# Altium integrated library Analog Devices Amplifiers and Linear Voltage References.IntLib: 547 symbols (part 1 of 20)
Pins are listed as number, name and electrical type; pins without a type are passive.

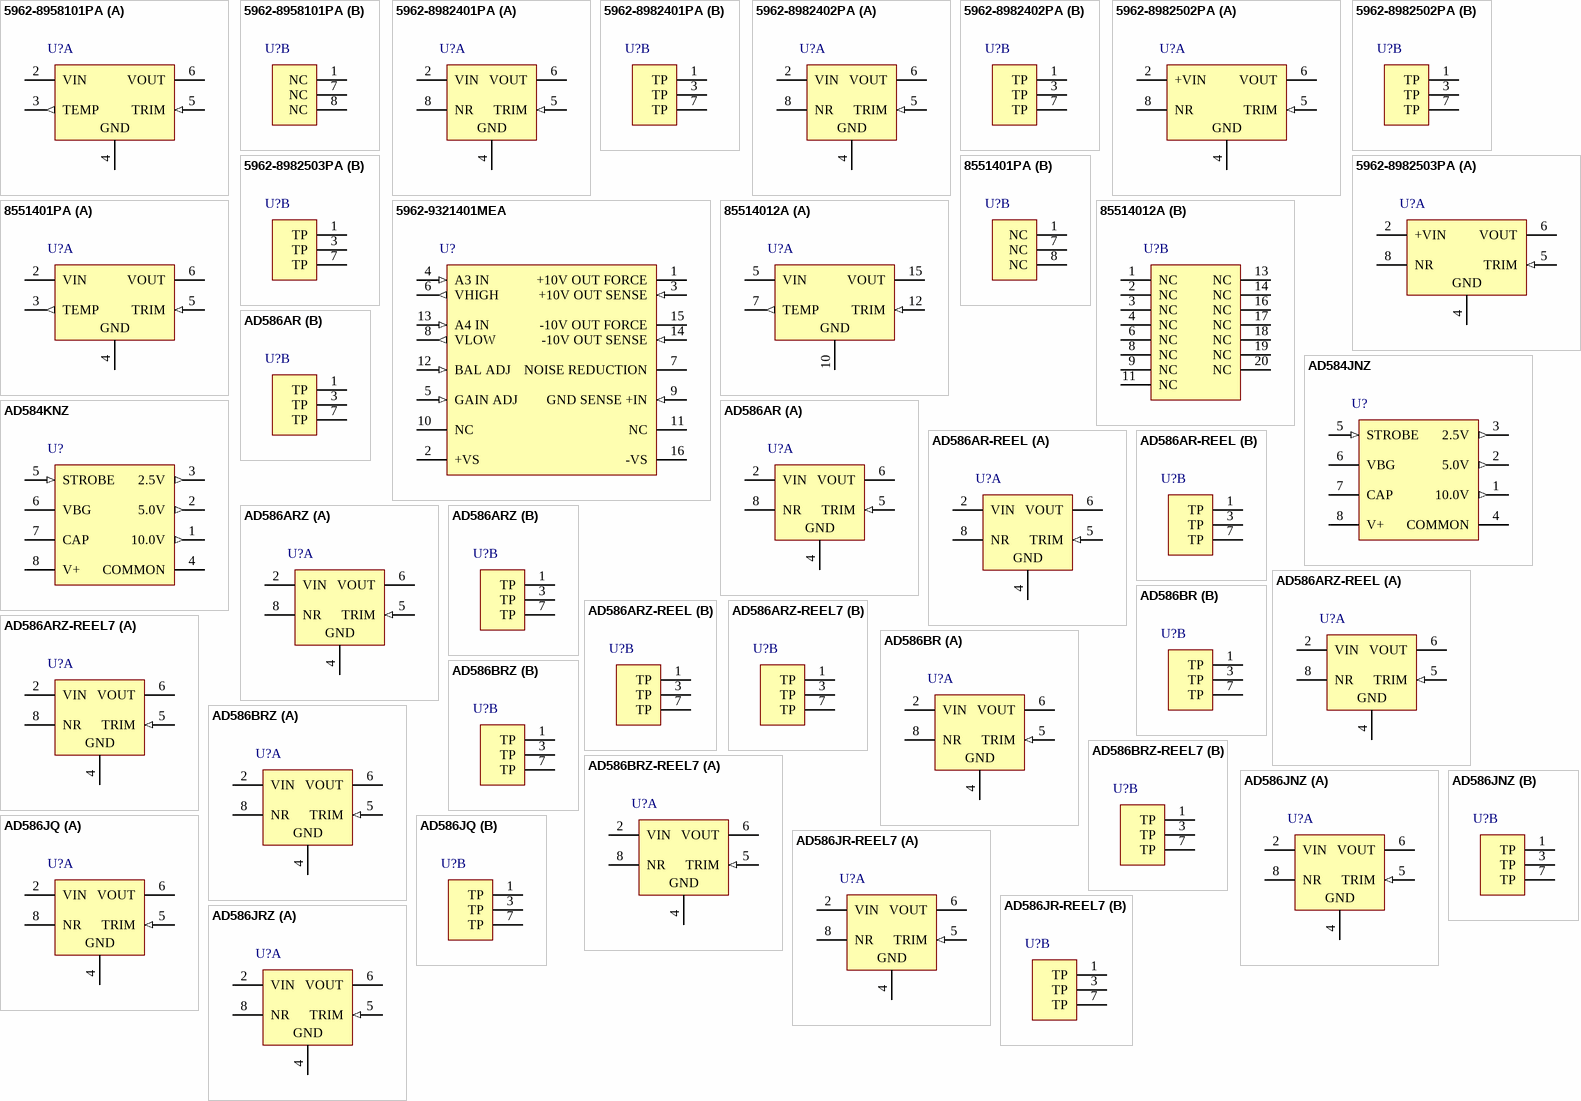
[diagram p0: symbols 5962-8958101PA to AD586JRZ]

## 5962-8958101PA
designator U?
Precision Voltage Reference, 10 V Output, 12 to 40 V Supply, Military, 8-pin DIP (Q-8), Tube; Manufacturer: Analog Devices; PartNumber: 5962-8958101PA; DatasheetVersion: Rev. K; PackageVersion: Aug-05; PackageReference: Q-8; PackageDescription: 8-Pin Ceramic Dual In-Line Package, Row spacing 7.62 mm, Pitch 2.54 mm; Supplier 1: Mouser; Supplier Part Number 1: 584-5962-8958101PA; Packing: Tube; Mounting Technology: Through Hole; ComponentLink1Description: Manufacturer URL; ComponentLink1URL: http://www.analog.com/en/index.html; ComponentLink2Description: Datasheet; ComponentLink2URL: http://www.analog.com/static/imported-files/data_sheets/REF01_02_03.pdf; ComponentLink3Description: Package Specification; ComponentLink3URL: http://www.analog.com/static/imported-files/packages/3925655241313314758Q_8.pdf; ComponentLink4Description: URL Link1; ComponentLink4URL: Product URL:http://www.analog.com/en/special-linear-functions/voltage-references/ref01/products/product.html
footprint ADI-Q-8 (DIP, 8-Leads, Body 10.29x6.73mm, Pitch 2.54mm)
part A pins: 2 VIN (power), 3 TEMP (out), 4 GND (power), 5 TRIM (in), 6 VOUT (power)
part B pins: 1 NC, 7 NC, 8 NC

## 5962-8982401PA
designator U?
High Precision Reference, 5 V Output, 10.8 to 36 V Supply, Military, 8-pin DIP (Q-8), Tube; Manufacturer: Analog Devices; PartNumber: 5962-8982401PA; Vout: 5V; DatasheetVersion: Rev. G; PackageVersion: Aug-05; PackageReference: Q-8; PackageDescription: 8-Pin Ceramic Dual In-Line Package, Row spacing 7.62 mm, Pitch 2.54 mm; Supplier 1: Mouser; Supplier Part Number 1: 584-5962-8982401PA; Packing: Tube; Mounting Technology: Through Hole; ComponentLink1Description: Manufacturer URL; ComponentLink1URL: http://www.analog.com/en/index.html; ComponentLink2Description: Datasheet; ComponentLink2URL: http://www.analog.com/static/imported-files/data_sheets/AD586.pdf; ComponentLink3Description: Package Specification; ComponentLink3URL: http://www.analog.com/static/imported-files/packages/3925655241313314758Q_8.pdf; ComponentLink4Description: URL Link1; ComponentLink4URL: Product URL:http://www.analog.com/en/special-linear-functions/voltage-references/ad586/products/product.html
footprint ADI-Q-8 (DIP, 8-Leads, Body 10.29x6.73mm, Pitch 2.54mm)
part A pins: 2 VIN (power) "Input Voltage.", 4 GND (power) "Ground.", 5 TRIM (in) "Optional External Fine Trim. See the Applying the AD586 section.", 6 VOUT (power) "Output Voltage.", 8 NR "Optional Noise Reduction Filter with External 1uF Capacitor to Ground."
part B pins: 1 TP "Factory Trim Pad (No Connect).", 3 TP "Factory Trim Pad (No Connect).", 7 TP "Factory Trim Pad (No Connect)."

## 5962-8982402PA
designator U?
High Precision Reference, 5 V Output, 10.8 to 36 V Supply, Military, 8-pin DIP (Q-8), Tube; Manufacturer: Analog Devices; PartNumber: 5962-8982402PA; Vout: 5V; DatasheetVersion: Rev. G; PackageVersion: Aug-05; PackageReference: Q-8; PackageDescription: 8-Pin Ceramic Dual In-Line Package, Row spacing 7.62 mm, Pitch 2.54 mm; Supplier 1: Mouser; Supplier Part Number 1: 584-5962-8982402PA; Packing: Tube; Mounting Technology: Through Hole; ComponentLink1Description: Manufacturer URL; ComponentLink1URL: http://www.analog.com/en/index.html; ComponentLink2Description: Datasheet; ComponentLink2URL: http://www.analog.com/static/imported-files/data_sheets/AD586.pdf; ComponentLink3Description: Package Specification; ComponentLink3URL: http://www.analog.com/static/imported-files/packages/3925655241313314758Q_8.pdf; ComponentLink4Description: URL Link1; ComponentLink4URL: Product URL:http://www.analog.com/en/special-linear-functions/voltage-references/ad586/products/product.html
footprint ADI-Q-8 (DIP, 8-Leads, Body 10.29x6.73mm, Pitch 2.54mm)
part A pins: 2 VIN (power) "Input Voltage.", 4 GND (power) "Ground.", 5 TRIM (in) "Optional External Fine Trim. See the Applying the AD586 section.", 6 VOUT (power) "Output Voltage.", 8 NR "Optional Noise Reduction Filter with External 1uF Capacitor to Ground."
part B pins: 1 TP "Factory Trim Pad (No Connect).", 3 TP "Factory Trim Pad (No Connect).", 7 TP "Factory Trim Pad (No Connect)."

## 5962-8982502PA
designator U?
High Precision Reference, 10 V Output, 13.5 to 36 V Supply, Military, 8-pin DIP (Q-8), Tube; Manufacturer: Analog Devices; PartNumber: 5962-8982502PA; Vout: 10V; DatasheetVersion: Rev. H; PackageVersion: Aug-05; PackageReference: Q-8; PackageDescription: 8-Pin Ceramic Dual In-Line Package, Row spacing 7.62 mm, Pitch 2.54 mm; Supplier 1: Mouser; Supplier Part Number 1: 584-5962-8982502PA; Packing: Tube; Mounting Technology: Through Hole; ComponentLink1Description: Manufacturer URL; ComponentLink1URL: http://www.analog.com/en/index.html; ComponentLink2Description: Datasheet; ComponentLink2URL: http://www.analog.com/static/imported-files/data_sheets/AD587.pdf; ComponentLink3Description: Package Specification; ComponentLink3URL: http://www.analog.com/static/imported-files/packages/3925655241313314758Q_8.pdf; ComponentLink4Description: URL Link1; ComponentLink4URL: Product URL:http://www.analog.com/en/special-linear-functions/voltage-references/ad587/products/product.html
footprint ADI-Q-8 (DIP, 8-Leads, Body 10.29x6.73mm, Pitch 2.54mm)
part A pins: 2 +VIN (power) "Input Voltage.", 4 GND (power) "Ground.", 5 TRIM (in) "Fine Trimming of Output Voltage.", 6 VOUT (power) "Output Voltage.", 8 NR "Noise Reduction of Output Voltage. Reduces noise via external capacitor to ground."
part B pins: 1 TP "No Connection. Leave floating.", 3 TP "No Connection. Leave floating.", 7 TP "No Connection. Leave floating."

## 5962-8982503PA
designator U?
High Precision Reference, 10 V Output, 13.5 to 36 V Supply, Military, 8-pin DIP (Q-8), Tube; Manufacturer: Analog Devices; PartNumber: 5962-8982503PA; Vout: 10V; DatasheetVersion: Rev. H; PackageVersion: Aug-05; PackageReference: Q-8; PackageDescription: 8-Pin Ceramic Dual In-Line Package, Row spacing 7.62 mm, Pitch 2.54 mm; Supplier 1: Mouser; Supplier Part Number 1: 584-5962-8982503PA; Packing: Tube; Mounting Technology: Through Hole; ComponentLink1Description: Manufacturer URL; ComponentLink1URL: http://www.analog.com/en/index.html; ComponentLink2Description: Datasheet; ComponentLink2URL: http://www.analog.com/static/imported-files/data_sheets/AD587.pdf; ComponentLink3Description: Package Specification; ComponentLink3URL: http://www.analog.com/static/imported-files/packages/3925655241313314758Q_8.pdf; ComponentLink4Description: URL Link1; ComponentLink4URL: Product URL:http://www.analog.com/en/special-linear-functions/voltage-references/ad587/products/product.html
footprint ADI-Q-8 (DIP, 8-Leads, Body 10.29x6.73mm, Pitch 2.54mm)
part A pins: 2 +VIN (power) "Input Voltage.", 4 GND (power) "Ground.", 5 TRIM (in) "Fine Trimming of Output Voltage.", 6 VOUT (power) "Output Voltage.", 8 NR "Noise Reduction of Output Voltage. Reduces noise via external capacitor to ground."
part B pins: 1 TP "No Connection. Leave floating.", 3 TP "No Connection. Leave floating.", 7 TP "No Connection. Leave floating."

## 5962-9321401MEA
designator U?
High Precision Reference, 10 V Output, + / - 15 V Supply, Military, 16-pin DIP (Q-16), Tube; Manufacturer: Analog Devices; PartNumber: 5962-9321401MEA; Vout: +/-10V; DatasheetVersion: Rev. B; PackageVersion: Aug-05; PackageReference: Q-16; PackageDescription: 16-Pin Ceramic Dual In-Line Package, Row spacing 7.62 mm, Pitch 2.54 mm; Supplier 1: Mouser; Supplier Part Number 1: 584-5962-9321401MEA; Packing: Tube; Mounting Technology: Through Hole; ComponentLink1Description: Manufacturer URL; ComponentLink1URL: http://www.analog.com/en/index.html; ComponentLink2Description: Datasheet; ComponentLink2URL: http://www.analog.com/static/imported-files/data_sheets/AD688.pdf; ComponentLink3Description: Package Specification; ComponentLink3URL: http://www.analog.com/static/imported-files/packages/54083157002221Q_16.pdf; ComponentLink4Description: URL Link1; ComponentLink4URL: Product URL:http://www.analog.com/en/special-linear-functions/voltage-references/ad688/products/product.html
footprint ADI-Q-16 (DIP, 16-Leads, Body 21.34x6.73mm, Pitch 2.54mm)
pins: 1 +10V OUT FORCE (power) "+10 V Output with Kelvin Force. Connect to Pin 3.", 2 +VS (power) "Positive Power Supply.", 3 +10V OUT SENSE (in) "+10 V Output with Kelvin Sense. Connect to Pin 1.", 4 A3 IN (in) "+ Input to A3. Connect to VHIGH, Pin 6.", 5 GAIN ADJ (in) "Reference Gain Adjustment for Calibration. See the Calibration section.", 6 VHIGH (out) "Unbuffered Reference High Output.", 7 NOISE REDUCTION "Noise Filtering Pin. Connect external 1 uF capacitor to ground to reduce output noise, see the Noise Performance and Reduction section. May be left open.", 8 VLOW (out) "Unbuffered Reference Low Output.", 9 GND SENSE +IN (in) "Gound with Kelvin Sense.", 10 NC "No Connection. Leave floating.", 11 NC "No Connection. Leave floating.", 12 BAL ADJ (in) "Reference Centering Adjustment for Calibration. See the Calibration section.", 13 A4 IN (in) "+ Input to A4. Connect to VLOW, Pin 8.", 14 -10V OUT SENSE (in) "-10 V Output with Kelvin Sense. Connect to Pin 15.", 15 -10V OUT FORCE (power) "-10 V Output with Kelvin Force. Connect to Pin 14.", 16 -VS (power) "Negative Power Supply."

## 8551401PA
designator U?
Precision Voltage Reference, 5 V Output, 7 to 36 V Supply, Military, 8-pin DIP (Q-8), Tube; Manufacturer: Analog Devices; PartNumber: 8551401PA; DatasheetVersion: Rev. K; PackageVersion: Aug-05; PackageReference: Q-8; PackageDescription: 8-Pin Ceramic Dual In-Line Package, Row spacing 7.62 mm, Pitch 2.54 mm; Supplier 1: Farnell; Supplier Part Number 1: 2312697; Supplier 2: Mouser; Supplier Part Number 2: 584-8551401PA; Packing: Tube; Mounting Technology: Through Hole; ComponentLink1Description: Manufacturer URL; ComponentLink1URL: http://www.analog.com/en/index.html; ComponentLink2Description: Datasheet; ComponentLink2URL: http://www.analog.com/static/imported-files/data_sheets/REF01_02_03.pdf; ComponentLink3Description: Package Specification; ComponentLink3URL: http://www.analog.com/static/imported-files/packages/3925655241313314758Q_8.pdf; ComponentLink4Description: URL Link1; ComponentLink4URL: Product URL:http://www.analog.com/en/special-linear-functions/voltage-references/ref02/products/product.html
footprint ADI-Q-8 (DIP, 8-Leads, Body 10.29x6.73mm, Pitch 2.54mm)
part A pins: 2 VIN (power), 3 TEMP (out), 4 GND (power), 5 TRIM (in), 6 VOUT (power)
part B pins: 1 NC, 7 NC, 8 NC

## 85514012A
designator U?
Precision Voltage Reference, 5 V Output, 7 to 36 V Supply, Military, 20-pin LCC (E-20-1), Tube; Manufacturer: Analog Devices; PartNumber: 85514012A; DatasheetVersion: Rev. K; PackageVersion: 022106-A, 02/2006; PackageReference: E-20-1; PackageDescription: 20-Terminal Ceramic Leadless Chip Carrier, Body 8.89 x 8.89 mm, Pitch 1.27 mm; Supplier 1: Mouser; Supplier Part Number 1: 584-85514012A; Packing: Tube; Mounting Technology: Surface Mount; ComponentLink1Description: Manufacturer URL; ComponentLink1URL: http://www.analog.com/en/index.html; ComponentLink2Description: Datasheet; ComponentLink2URL: http://www.analog.com/static/imported-files/data_sheets/REF01_02_03.pdf; ComponentLink3Description: Package Specification; ComponentLink3URL: http://www.analog.com/static/imported-files/packages/PKG_PDF/LCC(E)/E_20_1.pdf; ComponentLink4Description: URL Link1; ComponentLink4URL: Product URL:http://www.analog.com/en/special-linear-functions/voltage-references/ref02/products/product.html
footprint ADI-E-20-1_N (LCC, 20-Leads, Body 8.9x8.9mm, Pitch 1.27mm, IPC Medium Density)
footprint ADI-E-20-1_L (LCC, 20-Leads, Body 8.9x8.9mm, Pitch 1.27mm, IPC High Density)
footprint ADI-E-20-1_M (LCC, 20-Leads, Body 8.9x8.9mm, Pitch 1.27mm, IPC Low Density)
part A pins: 5 VIN (power) "Supply Voltage Input.", 7 TEMP (out) "Temperature (Band Gap) Output. Refer to the Temperature Monitoring section.", 10 GND (power) "Ground Connection.", 12 TRIM (in) "Output Voltage Trim. Refer to the Output Adjustment section.", 15 VOUT (power) "Reference Voltage Output."
part B pins: 1 NC "No Internal Connection. Leave floating or tied to ground in actual application.", 2 NC "No Internal Connection. Leave floating or tied to ground in actual application.", 3 NC "No Internal Connection. Leave floating or tied to ground in actual application.", 4 NC "No Internal Connection. Leave floating or tied to ground in actual application.", 6 NC "No Internal Connection. Leave floating or tied to ground in actual application.", 8 NC "No Internal Connection. Leave floating or tied to ground in actual application.", 9 NC "No Internal Connection. Leave floating or tied to ground in actual application.", 11 NC "No Internal Connection. Leave floating or tied to ground in actual application.", 13 NC "No Internal Connection. Leave floating or tied to ground in actual application.", 14 NC "No Internal Connection. Leave floating or tied to ground in actual application.", 16 NC "No Internal Connection. Leave floating or tied to ground in actual application.", 17 NC "No Internal Connection. Leave floating or tied to ground in actual application.", 18 NC "No Internal Connection. Leave floating or tied to ground in actual application.", 19 NC "No Internal Connection. Leave floating or tied to ground in actual application.", 20 NC "No Internal Connection. Leave floating or tied to ground in actual application."

## AD584JNZ
designator U?
Pin Programmable, Precision Voltage Reference, + 2.5 / + 5 / + 7.5 / + 10 Prog V Output, 4.5 to 30 V Supply, Commercial, 8-pin DIP (N-8), Tube; Manufacturer: Analog Devices; PartNumber: AD584JNZ; Max V Supply (V): 30; Min V Supply (V): 4.5; Vout: 2.5V, 5V, 7.5V, 10V; DatasheetVersion: Rev. C; PackageVersion: 070606-A, 07/2006; PackageReference: N-8; PackageDescription: 8-Pin Plastic Dual In-Line Package, Row spacing 7.62 mm, Pitch 2.54 mm; Supplier 1: Digi-Key; Supplier Part Number 1: AD584JNZ-ND; Supplier 2: Farnell; Supplier Part Number 2: 9604065; Supplier 3: Mouser; Supplier Part Number 3: 584-AD584JNZ; Packing: Tube; Operating Temp Range: 0 to 70 degC; Ref Out TC (ppm/C): 30; Mounting Technology: Through Hole; Code_JEDEC: MS-001; ComponentLink1Description: Manufacturer URL; ComponentLink1URL: http://www.analog.com/en/index.html; ComponentLink2Description: Datasheet; ComponentLink2URL: http://www.analog.com/static/imported-files/data_sheets/AD584.pdf; ComponentLink3Description: Package Specification; ComponentLink3URL: http:/www.analog.com/static/imported-files/packages/PKG_PDF/PDIP(N)/N_8.pdf; ComponentLink4Description: URL Link1; ComponentLink4URL: Product URL:http://www.analog.com/en/special-linear-functions/voltage-references/ad584/products/product.html
footprint ADI-N-8 (DIP, 8-Leads, Body 9.59x6.6mm, Pitch 2.54mm)
pins: 1 10.0V (out), 2 5.0V (out), 3 2.5V (out), 4 COMMON, 5 STROBE (in), 6 VBG, 7 CAP, 8 V+ (power)

## AD584KNZ
designator U?
Pin Programmable, Precision Voltage Reference, + 2.5 / + 5 / + 7.5 / + 10 Prog V Output, 4.5 to 30 V Supply, Commercial, 8-pin DIP (N-8), Tube; Manufacturer: Analog Devices; PartNumber: AD584KNZ; Max V Supply (V): 30; Min V Supply (V): 4.5; Ref Out TC (ppm/C): 15; Vout: 2.5V, 5V, 7.5V, 10V; DatasheetVersion: Rev. C; PackageVersion: 070606-A, 07/2006; PackageReference: N-8; PackageDescription: 8-Pin Plastic Dual In-Line Package, Row spacing 7.62 mm, Pitch 2.54 mm; Supplier 1: Digi-Key; Supplier Part Number 1: AD584KNZ-ND; Supplier 2: Farnell; Supplier Part Number 2: 1438331; Supplier 3: Mouser; Supplier Part Number 3: 584-AD584KNZ; Packing: Tube; Operating Temp Range: 0 to 70 degC; Mounting Technology: Through Hole; Code_JEDEC: MS-001; ComponentLink1Description: Manufacturer URL; ComponentLink1URL: http://www.analog.com/en/index.html; ComponentLink2Description: Datasheet; ComponentLink2URL: http://www.analog.com/static/imported-files/data_sheets/AD584.pdf; ComponentLink3Description: Package Specification; ComponentLink3URL: http:/www.analog.com/static/imported-files/packages/PKG_PDF/PDIP(N)/N_8.pdf; ComponentLink4Description: URL Link1; ComponentLink4URL: Product URL:http://www.analog.com/en/special-linear-functions/voltage-references/ad584/products/product.html
footprint ADI-N-8 (DIP, 8-Leads, Body 9.59x6.6mm, Pitch 2.54mm)
pins: 1 10.0V (out), 2 5.0V (out), 3 2.5V (out), 4 COMMON, 5 STROBE (in), 6 VBG, 7 CAP, 8 V+ (power)

## AD586AR
designator U?
High Precision Reference, 5 V Output, 10.8 to 36 V Supply, Industrial, 8-pin SOIC (R-8), Tube; Manufacturer: Analog Devices; PartNumber: AD586AR; Ref Out TC (ppm/C): 15; Vout: 5V; DatasheetVersion: Rev. G; PackageVersion: 060506-A, 06/2006; PackageReference: R-8; PackageDescription: 8-Pin Standard Small Outline Package, Body 4.9 x 3.9 mm, Pitch 1.27 mm; Supplier 1: Digi-Key; Supplier Part Number 1: AD586AR-ND; Supplier 2: Mouser; Supplier Part Number 2: 584-AD586AR; Packing: Tube; Operating Temp Range: -40 to 85 degC; Mounting Technology: Surface Mount; Code_JEDEC: MS-012-AA; ComponentLink1Description: Manufacturer URL; ComponentLink1URL: http://www.analog.com/en/index.html; ComponentLink2Description: Datasheet; ComponentLink2URL: http://www.analog.com/static/imported-files/data_sheets/AD586.pdf; ComponentLink3Description: Package Specification; ComponentLink3URL: http://www.analog.com/static/imported-files/packages/PKG_PDF/SOIC_Narrow%20(R)/R_8.pdf; ComponentLink4Description: URL Link1; ComponentLink4URL: Product URL:http://www.analog.com/en/special-linear-functions/voltage-references/ad586/products/product.html
footprint ADI-R-8_N (SOIC, 8-Leads, Body 4.9x3.9mm, Pitch 1.27mm, IPC Medium Density)
footprint ADI-R-8_L (SOIC, 8-Leads, Body 4.9x3.9mm, Pitch 1.27mm, IPC High Density)
footprint ADI-R-8_M (SOIC, 8-Leads, Body 4.9x3.9mm, Pitch 1.27mm, IPC Low Density)
part A pins: 2 VIN (power) "Input Voltage.", 4 GND (power) "Ground.", 5 TRIM (in) "Optional External Fine Trim. See the Applying the AD586 section.", 6 VOUT (power) "Output Voltage.", 8 NR "Optional Noise Reduction Filter with External 1uF Capacitor to Ground."
part B pins: 1 TP "Factory Trim Pad (No Connect).", 3 TP "Factory Trim Pad (No Connect).", 7 TP "Factory Trim Pad (No Connect)."

## AD586AR-REEL
designator U?
High Precision Reference, 5 V Output, 10.8 to 36 V Supply, Industrial, 8-pin SOIC (R-8), Reel; Manufacturer: Analog Devices; PartNumber: AD586AR-REEL; Ref Out TC (ppm/C): 15; Vout: 5V; DatasheetVersion: Rev. G; PackageVersion: 060506-A, 06/2006; PackageReference: R-8; PackageDescription: 8-Pin Standard Small Outline Package, Body 4.9 x 3.9 mm, Pitch 1.27 mm; Supplier 1: Digi-Key; Supplier Part Number 1: AD586AR-REEL-ND; Supplier 2: Mouser; Supplier Part Number 2: 584-AD586AR-R; Packing: Reel; Operating Temp Range: -40 to 85 degC; Mounting Technology: Surface Mount; Code_JEDEC: MS-012-AA; ComponentLink1Description: Manufacturer URL; ComponentLink1URL: http://www.analog.com/en/index.html; ComponentLink2Description: Datasheet; ComponentLink2URL: http://www.analog.com/static/imported-files/data_sheets/AD586.pdf; ComponentLink3Description: Package Specification; ComponentLink3URL: http://www.analog.com/static/imported-files/packages/PKG_PDF/SOIC_Narrow%20(R)/R_8.pdf; ComponentLink4Description: URL Link1; ComponentLink4URL: Product URL:http://www.analog.com/en/special-linear-functions/voltage-references/ad586/products/product.html
footprint ADI-R-8_N (SOIC, 8-Leads, Body 4.9x3.9mm, Pitch 1.27mm, IPC Medium Density)
footprint ADI-R-8_L (SOIC, 8-Leads, Body 4.9x3.9mm, Pitch 1.27mm, IPC High Density)
footprint ADI-R-8_M (SOIC, 8-Leads, Body 4.9x3.9mm, Pitch 1.27mm, IPC Low Density)
part A pins: 2 VIN (power) "Input Voltage.", 4 GND (power) "Ground.", 5 TRIM (in) "Optional External Fine Trim. See the Applying the AD586 section.", 6 VOUT (power) "Output Voltage.", 8 NR "Optional Noise Reduction Filter with External 1uF Capacitor to Ground."
part B pins: 1 TP "Factory Trim Pad (No Connect).", 3 TP "Factory Trim Pad (No Connect).", 7 TP "Factory Trim Pad (No Connect)."

## AD586ARZ
designator U?
High Precision Reference, 5 V Output, 10.8 to 36 V Supply, Industrial, 8-pin SOIC (R-8), Tube; Manufacturer: Analog Devices; PartNumber: AD586ARZ; Ref Out TC (ppm/C): 15; Vout: 5V; DatasheetVersion: Rev. G; PackageVersion: 060506-A, 06/2006; PackageReference: R-8; PackageDescription: 8-Pin Standard Small Outline Package, Body 4.9 x 3.9 mm, Pitch 1.27 mm; Supplier 1: Digi-Key; Supplier Part Number 1: AD586ARZ-ND; Supplier 2: Mouser; Supplier Part Number 2: 584-AD586ARZ; Packing: Tube; Operating Temp Range: -40 to 85 degC; Mounting Technology: Surface Mount; Code_JEDEC: MS-012-AA; ComponentLink1Description: Manufacturer URL; ComponentLink1URL: http://www.analog.com/en/index.html; ComponentLink2Description: Datasheet; ComponentLink2URL: http://www.analog.com/static/imported-files/data_sheets/AD586.pdf; ComponentLink3Description: Package Specification; ComponentLink3URL: http://www.analog.com/static/imported-files/packages/PKG_PDF/SOIC_Narrow%20(R)/R_8.pdf; ComponentLink4Description: URL Link1; ComponentLink4URL: Product URL:http://www.analog.com/en/special-linear-functions/voltage-references/ad586/products/product.html
footprint ADI-R-8_N (SOIC, 8-Leads, Body 4.9x3.9mm, Pitch 1.27mm, IPC Medium Density)
footprint ADI-R-8_L (SOIC, 8-Leads, Body 4.9x3.9mm, Pitch 1.27mm, IPC High Density)
footprint ADI-R-8_M (SOIC, 8-Leads, Body 4.9x3.9mm, Pitch 1.27mm, IPC Low Density)
part A pins: 2 VIN (power) "Input Voltage.", 4 GND (power) "Ground.", 5 TRIM (in) "Optional External Fine Trim. See the Applying the AD586 section.", 6 VOUT (power) "Output Voltage.", 8 NR "Optional Noise Reduction Filter with External 1uF Capacitor to Ground."
part B pins: 1 TP "Factory Trim Pad (No Connect).", 3 TP "Factory Trim Pad (No Connect).", 7 TP "Factory Trim Pad (No Connect)."

## AD586ARZ-REEL
designator U?
High Precision Reference, 5 V Output, 10.8 to 36 V Supply, Industrial, 8-pin SOIC (R-8), Reel; Manufacturer: Analog Devices; PartNumber: AD586ARZ-REEL; Ref Out TC (ppm/C): 15; Vout: 5V; DatasheetVersion: Rev. G; PackageVersion: 060506-A, 06/2006; PackageReference: R-8; PackageDescription: 8-Pin Standard Small Outline Package, Body 4.9 x 3.9 mm, Pitch 1.27 mm; Supplier 1: Digi-Key; Supplier Part Number 1: AD586ARZ-REELTR-ND; Supplier 2: Digi-Key; Supplier Part Number 2: AD586ARZ-REELCT-ND; Supplier 3: Digi-Key; Supplier Part Number 3: AD586ARZ-REELDKR-ND; Supplier 4: Mouser; Supplier Part Number 4: 584-AD586ARZ-R; Packing: Reel; Operating Temp Range: -40 to 85 degC; Mounting Technology: Surface Mount; Code_JEDEC: MS-012-AA; ComponentLink1Description: Manufacturer URL; ComponentLink1URL: http://www.analog.com/en/index.html; ComponentLink2Description: Datasheet; ComponentLink2URL: http://www.analog.com/static/imported-files/data_sheets/AD586.pdf; ComponentLink3Description: Package Specification; ComponentLink3URL: http://www.analog.com/static/imported-files/packages/PKG_PDF/SOIC_Narrow%20(R)/R_8.pdf; ComponentLink4Description: URL Link1; ComponentLink4URL: Product URL:http://www.analog.com/en/special-linear-functions/voltage-references/ad586/products/product.html
footprint ADI-R-8_N (SOIC, 8-Leads, Body 4.9x3.9mm, Pitch 1.27mm, IPC Medium Density)
footprint ADI-R-8_L (SOIC, 8-Leads, Body 4.9x3.9mm, Pitch 1.27mm, IPC High Density)
footprint ADI-R-8_M (SOIC, 8-Leads, Body 4.9x3.9mm, Pitch 1.27mm, IPC Low Density)
part A pins: 2 VIN (power) "Input Voltage.", 4 GND (power) "Ground.", 5 TRIM (in) "Optional External Fine Trim. See the Applying the AD586 section.", 6 VOUT (power) "Output Voltage.", 8 NR "Optional Noise Reduction Filter with External 1uF Capacitor to Ground."
part B pins: 1 TP "Factory Trim Pad (No Connect).", 3 TP "Factory Trim Pad (No Connect).", 7 TP "Factory Trim Pad (No Connect)."

## AD586ARZ-REEL7
designator U?
High Precision Reference, 5 V Output, 10.8 to 36 V Supply, Industrial, 8-pin SOIC (R-8), Reel; Manufacturer: Analog Devices; PartNumber: AD586ARZ-REEL7; Ref Out TC (ppm/C): 15; Vout: 5V; DatasheetVersion: Rev. G; PackageVersion: 060506-A, 06/2006; PackageReference: R-8; PackageDescription: 8-Pin Standard Small Outline Package, Body 4.9 x 3.9 mm, Pitch 1.27 mm; Supplier 1: Digi-Key; Supplier Part Number 1: AD586ARZ-REEL7-ND; Supplier 2: Mouser; Supplier Part Number 2: 584-AD586ARZ-R7; Packing: Reel; Operating Temp Range: -40 to 85 degC; Mounting Technology: Surface Mount; Code_JEDEC: MS-012-AA; ComponentLink1Description: Manufacturer URL; ComponentLink1URL: http://www.analog.com/en/index.html; ComponentLink2Description: Datasheet; ComponentLink2URL: http://www.analog.com/static/imported-files/data_sheets/AD586.pdf; ComponentLink3Description: Package Specification; ComponentLink3URL: http://www.analog.com/static/imported-files/packages/PKG_PDF/SOIC_Narrow%20(R)/R_8.pdf; ComponentLink4Description: URL Link1; ComponentLink4URL: Product URL:http://www.analog.com/en/special-linear-functions/voltage-references/ad586/products/product.html
footprint ADI-R-8_N (SOIC, 8-Leads, Body 4.9x3.9mm, Pitch 1.27mm, IPC Medium Density)
footprint ADI-R-8_L (SOIC, 8-Leads, Body 4.9x3.9mm, Pitch 1.27mm, IPC High Density)
footprint ADI-R-8_M (SOIC, 8-Leads, Body 4.9x3.9mm, Pitch 1.27mm, IPC Low Density)
part A pins: 2 VIN (power) "Input Voltage.", 4 GND (power) "Ground.", 5 TRIM (in) "Optional External Fine Trim. See the Applying the AD586 section.", 6 VOUT (power) "Output Voltage.", 8 NR "Optional Noise Reduction Filter with External 1uF Capacitor to Ground."
part B pins: 1 TP "Factory Trim Pad (No Connect).", 3 TP "Factory Trim Pad (No Connect).", 7 TP "Factory Trim Pad (No Connect)."

## AD586BR
designator U?
High Precision Reference, 5 V Output, 10.8 to 36 V Supply, Industrial, 8-pin SOIC (R-8), Tube; Manufacturer: Analog Devices; PartNumber: AD586BR; Ref Out TC (ppm/C): 5; Vout: 5V; DatasheetVersion: Rev. G; PackageVersion: 060506-A, 06/2006; PackageReference: R-8; PackageDescription: 8-Pin Standard Small Outline Package, Body 4.9 x 3.9 mm, Pitch 1.27 mm; Supplier 1: Digi-Key; Supplier Part Number 1: AD586BR-ND; Supplier 2: Mouser; Supplier Part Number 2: N/A; Packing: Tube; Operating Temp Range: -40 to 85 degC; Mounting Technology: Surface Mount; Code_JEDEC: MS-012-AA; ComponentLink1Description: Manufacturer URL; ComponentLink1URL: http://www.analog.com/en/index.html; ComponentLink2Description: Datasheet; ComponentLink2URL: http://www.analog.com/static/imported-files/data_sheets/AD586.pdf; ComponentLink3Description: Package Specification; ComponentLink3URL: http://www.analog.com/static/imported-files/packages/PKG_PDF/SOIC_Narrow%20(R)/R_8.pdf; ComponentLink4Description: URL Link1; ComponentLink4URL: Product URL:http://www.analog.com/en/special-linear-functions/voltage-references/ad586/products/product.html
footprint ADI-R-8_N (SOIC, 8-Leads, Body 4.9x3.9mm, Pitch 1.27mm, IPC Medium Density)
footprint ADI-R-8_L (SOIC, 8-Leads, Body 4.9x3.9mm, Pitch 1.27mm, IPC High Density)
footprint ADI-R-8_M (SOIC, 8-Leads, Body 4.9x3.9mm, Pitch 1.27mm, IPC Low Density)
part A pins: 2 VIN (power) "Input Voltage.", 4 GND (power) "Ground.", 5 TRIM (in) "Optional External Fine Trim. See the Applying the AD586 section.", 6 VOUT (power) "Output Voltage.", 8 NR "Optional Noise Reduction Filter with External 1uF Capacitor to Ground."
part B pins: 1 TP "Factory Trim Pad (No Connect).", 3 TP "Factory Trim Pad (No Connect).", 7 TP "Factory Trim Pad (No Connect)."

## AD586BRZ
designator U?
High Precision Reference, 5 V Output, 10.8 to 36 V Supply, Industrial, 8-pin SOIC (R-8), Tube; Manufacturer: Analog Devices; PartNumber: AD586BRZ; Ref Out TC (ppm/C): 5; Vout: 5V; DatasheetVersion: Rev. G; PackageVersion: 060506-A, 06/2006; PackageReference: R-8; PackageDescription: 8-Pin Standard Small Outline Package, Body 4.9 x 3.9 mm, Pitch 1.27 mm; Supplier 1: Digi-Key; Supplier Part Number 1: AD586BRZ-ND; Supplier 2: Farnell; Supplier Part Number 2: 2305765; Supplier 3: Mouser; Supplier Part Number 3: 584-AD586BRZ; Packing: Tube; Operating Temp Range: -40 to 85 degC; Mounting Technology: Surface Mount; Code_JEDEC: MS-012-AA; ComponentLink1Description: Manufacturer URL; ComponentLink1URL: http://www.analog.com/en/index.html; ComponentLink2Description: Datasheet; ComponentLink2URL: http://www.analog.com/static/imported-files/data_sheets/AD586.pdf; ComponentLink3Description: Package Specification; ComponentLink3URL: http://www.analog.com/static/imported-files/packages/PKG_PDF/SOIC_Narrow%20(R)/R_8.pdf; ComponentLink4Description: URL Link1; ComponentLink4URL: Product URL:http://www.analog.com/en/special-linear-functions/voltage-references/ad586/products/product.html
footprint ADI-R-8_N (SOIC, 8-Leads, Body 4.9x3.9mm, Pitch 1.27mm, IPC Medium Density)
footprint ADI-R-8_L (SOIC, 8-Leads, Body 4.9x3.9mm, Pitch 1.27mm, IPC High Density)
footprint ADI-R-8_M (SOIC, 8-Leads, Body 4.9x3.9mm, Pitch 1.27mm, IPC Low Density)
part A pins: 2 VIN (power) "Input Voltage.", 4 GND (power) "Ground.", 5 TRIM (in) "Optional External Fine Trim. See the Applying the AD586 section.", 6 VOUT (power) "Output Voltage.", 8 NR "Optional Noise Reduction Filter with External 1uF Capacitor to Ground."
part B pins: 1 TP "Factory Trim Pad (No Connect).", 3 TP "Factory Trim Pad (No Connect).", 7 TP "Factory Trim Pad (No Connect)."

## AD586BRZ-REEL7
designator U?
High Precision Reference, 5 V Output, 10.8 to 36 V Supply, Industrial, 8-pin SOIC (R-8), Reel; Manufacturer: Analog Devices; PartNumber: AD586BRZ-REEL7; Ref Out TC (ppm/C): 5; Vout: 5V; DatasheetVersion: Rev. G; PackageVersion: 060506-A, 06/2006; PackageReference: R-8; PackageDescription: 8-Pin Standard Small Outline Package, Body 4.9 x 3.9 mm, Pitch 1.27 mm; Supplier 1: Digi-Key; Supplier Part Number 1: AD586BRZ-REEL7TR-ND; Supplier 2: Digi-Key; Supplier Part Number 2: AD586BRZ-REEL7CT-ND; Supplier 3: Digi-Key; Supplier Part Number 3: AD586BRZ-REEL7DKR-ND; Supplier 4: Mouser; Supplier Part Number 4: 584-AD586BRZ-R7; Packing: Reel; Operating Temp Range: -40 to 85 degC; Mounting Technology: Surface Mount; Code_JEDEC: MS-012-AA; ComponentLink1Description: Manufacturer URL; ComponentLink1URL: http://www.analog.com/en/index.html; ComponentLink2Description: Datasheet; ComponentLink2URL: http://www.analog.com/static/imported-files/data_sheets/AD586.pdf; ComponentLink3Description: Package Specification; ComponentLink3URL: http://www.analog.com/static/imported-files/packages/PKG_PDF/SOIC_Narrow%20(R)/R_8.pdf; ComponentLink4Description: URL Link1; ComponentLink4URL: Product URL:http://www.analog.com/en/special-linear-functions/voltage-references/ad586/products/product.html
footprint ADI-R-8_N (SOIC, 8-Leads, Body 4.9x3.9mm, Pitch 1.27mm, IPC Medium Density)
footprint ADI-R-8_L (SOIC, 8-Leads, Body 4.9x3.9mm, Pitch 1.27mm, IPC High Density)
footprint ADI-R-8_M (SOIC, 8-Leads, Body 4.9x3.9mm, Pitch 1.27mm, IPC Low Density)
part A pins: 2 VIN (power) "Input Voltage.", 4 GND (power) "Ground.", 5 TRIM (in) "Optional External Fine Trim. See the Applying the AD586 section.", 6 VOUT (power) "Output Voltage.", 8 NR "Optional Noise Reduction Filter with External 1uF Capacitor to Ground."
part B pins: 1 TP "Factory Trim Pad (No Connect).", 3 TP "Factory Trim Pad (No Connect).", 7 TP "Factory Trim Pad (No Connect)."

## AD586JNZ
designator U?
High Precision Reference, 5 V Output, 10.8 to 36 V Supply, Commercial, 8-pin DIP (N-8), Tube; Manufacturer: Analog Devices; PartNumber: AD586JNZ; Ref Out TC (ppm/C): 25; Vout: 5V; DatasheetVersion: Rev. G; PackageVersion: 070606-A, 07/2006; PackageReference: N-8; PackageDescription: 8-Pin Plastic Dual In-Line Package, Row spacing 7.62 mm, Pitch 2.54 mm; Supplier 1: Digi-Key; Supplier Part Number 1: AD586JNZ-ND; Supplier 2: Farnell; Supplier Part Number 2: 9605126; Supplier 3: Mouser; Supplier Part Number 3: 584-AD586JNZ; Packing: Tube; Operating Temp Range: 0 to 70 degC; Mounting Technology: Through Hole; Code_JEDEC: MS-001; ComponentLink1Description: Manufacturer URL; ComponentLink1URL: http://www.analog.com/en/index.html; ComponentLink2Description: Datasheet; ComponentLink2URL: http://www.analog.com/static/imported-files/data_sheets/AD586.pdf; ComponentLink3Description: Package Specification; ComponentLink3URL: http:/www.analog.com/static/imported-files/packages/PKG_PDF/PDIP(N)/N_8.pdf; ComponentLink4Description: URL Link1; ComponentLink4URL: Product URL:http://www.analog.com/en/special-linear-functions/voltage-references/ad586/products/product.html
footprint ADI-N-8 (DIP, 8-Leads, Body 9.59x6.6mm, Pitch 2.54mm)
part A pins: 2 VIN (power) "Input Voltage.", 4 GND (power) "Ground.", 5 TRIM (in) "Optional External Fine Trim. See the Applying the AD586 section.", 6 VOUT (power) "Output Voltage.", 8 NR "Optional Noise Reduction Filter with External 1uF Capacitor to Ground."
part B pins: 1 TP "Factory Trim Pad (No Connect).", 3 TP "Factory Trim Pad (No Connect).", 7 TP "Factory Trim Pad (No Connect)."

## AD586JQ
designator U?
High Precision Reference, 5 V Output, 10.8 to 36 V Supply, Commercial, 8-pin DIP (Q-8), Tube; Manufacturer: Analog Devices; PartNumber: AD586JQ; Ref Out TC (ppm/C): 25; Vout: 5V; DatasheetVersion: Rev. G; PackageVersion: Aug-05; PackageReference: Q-8; PackageDescription: 8-Pin Ceramic Dual In-Line Package, Row spacing 7.62 mm, Pitch 2.54 mm; Supplier 1: Digi-Key; Supplier Part Number 1: AD586JQ-ND; Supplier 2: Mouser; Supplier Part Number 2: 584-AD586JQ; Packing: Tube; Operating Temp Range: 0 to 70 degC; Mounting Technology: Through Hole; ComponentLink1Description: Manufacturer URL; ComponentLink1URL: http://www.analog.com/en/index.html; ComponentLink2Description: Datasheet; ComponentLink2URL: http://www.analog.com/static/imported-files/data_sheets/AD586.pdf; ComponentLink3Description: Package Specification; ComponentLink3URL: http://www.analog.com/static/imported-files/packages/3925655241313314758Q_8.pdf; ComponentLink4Description: URL Link1; ComponentLink4URL: Product URL:http://www.analog.com/en/special-linear-functions/voltage-references/ad586/products/product.html
footprint ADI-Q-8 (DIP, 8-Leads, Body 10.29x6.73mm, Pitch 2.54mm)
part A pins: 2 VIN (power) "Input Voltage.", 4 GND (power) "Ground.", 5 TRIM (in) "Optional External Fine Trim. See the Applying the AD586 section.", 6 VOUT (power) "Output Voltage.", 8 NR "Optional Noise Reduction Filter with External 1uF Capacitor to Ground."
part B pins: 1 TP "Factory Trim Pad (No Connect).", 3 TP "Factory Trim Pad (No Connect).", 7 TP "Factory Trim Pad (No Connect)."

## AD586JR-REEL7
designator U?
High Precision Reference, 5 V Output, 10.8 to 36 V Supply, Commercial, 8-pin SOIC (R-8), Reel; Manufacturer: Analog Devices; PartNumber: AD586JR-REEL7; Ref Out TC (ppm/C): 25; Vout: 5V; DatasheetVersion: Rev. G; PackageVersion: 060506-A, 06/2006; PackageReference: R-8; PackageDescription: 8-Pin Standard Small Outline Package, Body 4.9 x 3.9 mm, Pitch 1.27 mm; Supplier 1: Digi-Key; Supplier Part Number 1: AD586JR-REEL7-ND; Supplier 2: Mouser; Supplier Part Number 2: N/A; Packing: Reel; Operating Temp Range: 0 to 70 degC; Mounting Technology: Surface Mount; Code_JEDEC: MS-012-AA; ComponentLink1Description: Manufacturer URL; ComponentLink1URL: http://www.analog.com/en/index.html; ComponentLink2Description: Datasheet; ComponentLink2URL: http://www.analog.com/static/imported-files/data_sheets/AD586.pdf; ComponentLink3Description: Package Specification; ComponentLink3URL: http://www.analog.com/static/imported-files/packages/PKG_PDF/SOIC_Narrow%20(R)/R_8.pdf; ComponentLink4Description: URL Link1; ComponentLink4URL: Product URL:http://www.analog.com/en/special-linear-functions/voltage-references/ad586/products/product.html
footprint ADI-R-8_N (SOIC, 8-Leads, Body 4.9x3.9mm, Pitch 1.27mm, IPC Medium Density)
footprint ADI-R-8_L (SOIC, 8-Leads, Body 4.9x3.9mm, Pitch 1.27mm, IPC High Density)
footprint ADI-R-8_M (SOIC, 8-Leads, Body 4.9x3.9mm, Pitch 1.27mm, IPC Low Density)
part A pins: 2 VIN (power) "Input Voltage.", 4 GND (power) "Ground.", 5 TRIM (in) "Optional External Fine Trim. See the Applying the AD586 section.", 6 VOUT (power) "Output Voltage.", 8 NR "Optional Noise Reduction Filter with External 1uF Capacitor to Ground."
part B pins: 1 TP "Factory Trim Pad (No Connect).", 3 TP "Factory Trim Pad (No Connect).", 7 TP "Factory Trim Pad (No Connect)."

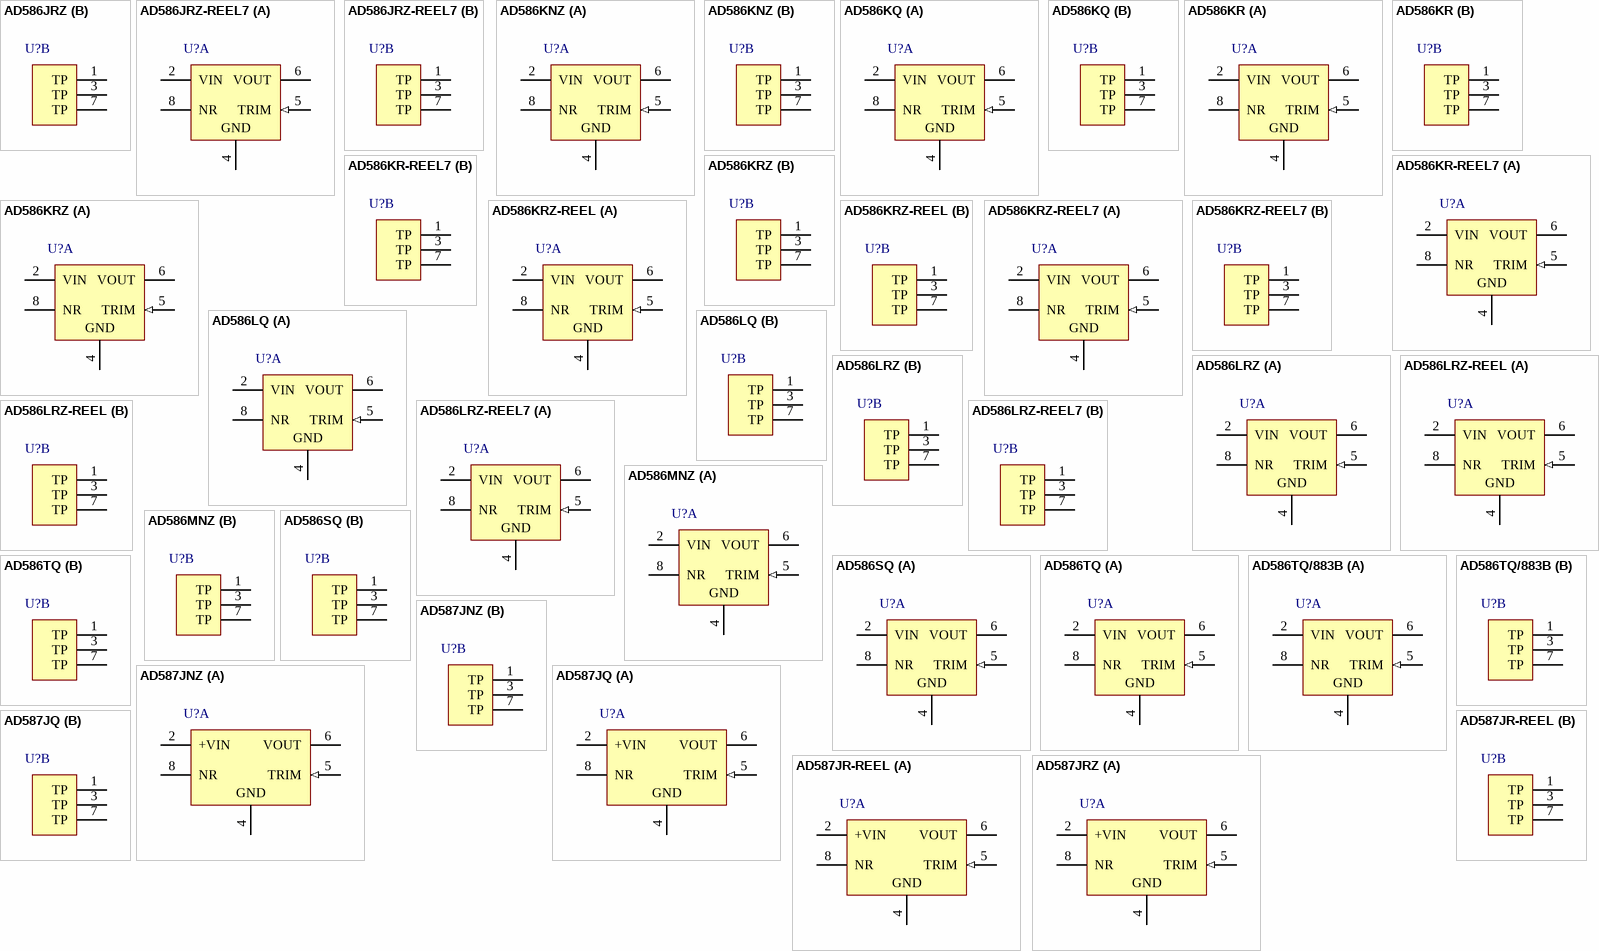
[diagram p1: symbols AD586JRZ to AD587JRZ]

## AD586JRZ
designator U?
High Precision Reference, 5 V Output, 10.8 to 36 V Supply, Commercial, 8-pin SOIC (R-8), Tube; Manufacturer: Analog Devices; PartNumber: AD586JRZ; Ref Out TC (ppm/C): 25; Vout: 5V; DatasheetVersion: Rev. G; PackageVersion: 060506-A, 06/2006; PackageReference: R-8; PackageDescription: 8-Pin Standard Small Outline Package, Body 4.9 x 3.9 mm, Pitch 1.27 mm; Supplier 1: Digi-Key; Supplier Part Number 1: AD586JRZ-ND; Supplier 2: Farnell; Supplier Part Number 2: 9426167; Supplier 3: Mouser; Supplier Part Number 3: 584-AD586JRZ; Packing: Tube; Operating Temp Range: 0 to 70 degC; Mounting Technology: Surface Mount; Code_JEDEC: MS-012-AA; ComponentLink1Description: Manufacturer URL; ComponentLink1URL: http://www.analog.com/en/index.html; ComponentLink2Description: Datasheet; ComponentLink2URL: http://www.analog.com/static/imported-files/data_sheets/AD586.pdf; ComponentLink3Description: Package Specification; ComponentLink3URL: http://www.analog.com/static/imported-files/packages/PKG_PDF/SOIC_Narrow%20(R)/R_8.pdf; ComponentLink4Description: URL Link1; ComponentLink4URL: Product URL:http://www.analog.com/en/special-linear-functions/voltage-references/ad586/products/product.html
footprint ADI-R-8_N (SOIC, 8-Leads, Body 4.9x3.9mm, Pitch 1.27mm, IPC Medium Density)
footprint ADI-R-8_L (SOIC, 8-Leads, Body 4.9x3.9mm, Pitch 1.27mm, IPC High Density)
footprint ADI-R-8_M (SOIC, 8-Leads, Body 4.9x3.9mm, Pitch 1.27mm, IPC Low Density)
part A pins: 2 VIN (power) "Input Voltage.", 4 GND (power) "Ground.", 5 TRIM (in) "Optional External Fine Trim. See the Applying the AD586 section.", 6 VOUT (power) "Output Voltage.", 8 NR "Optional Noise Reduction Filter with External 1uF Capacitor to Ground."
part B pins: 1 TP "Factory Trim Pad (No Connect).", 3 TP "Factory Trim Pad (No Connect).", 7 TP "Factory Trim Pad (No Connect)."

## AD586JRZ-REEL7
designator U?
High Precision Reference, 5 V Output, 10.8 to 36 V Supply, Commercial, 8-pin SOIC (R-8), Reel; Manufacturer: Analog Devices; PartNumber: AD586JRZ-REEL7; Ref Out TC (ppm/C): 25; Vout: 5V; DatasheetVersion: Rev. G; PackageVersion: 060506-A, 06/2006; PackageReference: R-8; PackageDescription: 8-Pin Standard Small Outline Package, Body 4.9 x 3.9 mm, Pitch 1.27 mm; Supplier 1: Digi-Key; Supplier Part Number 1: AD586JRZ-REEL7-ND; Supplier 2: Mouser; Supplier Part Number 2: 584-AD586JRZ-R7; Packing: Reel; Operating Temp Range: 0 to 70 degC; Mounting Technology: Surface Mount; Code_JEDEC: MS-012-AA; ComponentLink1Description: Manufacturer URL; ComponentLink1URL: http://www.analog.com/en/index.html; ComponentLink2Description: Datasheet; ComponentLink2URL: http://www.analog.com/static/imported-files/data_sheets/AD586.pdf; ComponentLink3Description: Package Specification; ComponentLink3URL: http://www.analog.com/static/imported-files/packages/PKG_PDF/SOIC_Narrow%20(R)/R_8.pdf; ComponentLink4Description: URL Link1; ComponentLink4URL: Product URL:http://www.analog.com/en/special-linear-functions/voltage-references/ad586/products/product.html
footprint ADI-R-8_N (SOIC, 8-Leads, Body 4.9x3.9mm, Pitch 1.27mm, IPC Medium Density)
footprint ADI-R-8_L (SOIC, 8-Leads, Body 4.9x3.9mm, Pitch 1.27mm, IPC High Density)
footprint ADI-R-8_M (SOIC, 8-Leads, Body 4.9x3.9mm, Pitch 1.27mm, IPC Low Density)
part A pins: 2 VIN (power) "Input Voltage.", 4 GND (power) "Ground.", 5 TRIM (in) "Optional External Fine Trim. See the Applying the AD586 section.", 6 VOUT (power) "Output Voltage.", 8 NR "Optional Noise Reduction Filter with External 1uF Capacitor to Ground."
part B pins: 1 TP "Factory Trim Pad (No Connect).", 3 TP "Factory Trim Pad (No Connect).", 7 TP "Factory Trim Pad (No Connect)."

## AD586KNZ
designator U?
High Precision Reference, 5 V Output, 10.8 to 36 V Supply, Commercial, 8-pin DIP (N-8), Tube; Manufacturer: Analog Devices; PartNumber: AD586KNZ; Ref Out TC (ppm/C): 15; Vout: 5V; DatasheetVersion: Rev. G; PackageVersion: 070606-A, 07/2006; PackageReference: N-8; PackageDescription: 8-Pin Plastic Dual In-Line Package, Row spacing 7.62 mm, Pitch 2.54 mm; Supplier 1: Digi-Key; Supplier Part Number 1: AD586KNZ-ND; Supplier 2: Farnell; Supplier Part Number 2: 1438332; Supplier 3: Mouser; Supplier Part Number 3: 584-AD586KNZ; Packing: Tube; Operating Temp Range: 0 to 70 degC; Mounting Technology: Through Hole; Code_JEDEC: MS-001; ComponentLink1Description: Manufacturer URL; ComponentLink1URL: http://www.analog.com/en/index.html; ComponentLink2Description: Datasheet; ComponentLink2URL: http://www.analog.com/static/imported-files/data_sheets/AD586.pdf; ComponentLink3Description: Package Specification; ComponentLink3URL: http:/www.analog.com/static/imported-files/packages/PKG_PDF/PDIP(N)/N_8.pdf; ComponentLink4Description: URL Link1; ComponentLink4URL: Product URL:http://www.analog.com/en/special-linear-functions/voltage-references/ad586/products/product.html
footprint ADI-N-8 (DIP, 8-Leads, Body 9.59x6.6mm, Pitch 2.54mm)
part A pins: 2 VIN (power) "Input Voltage.", 4 GND (power) "Ground.", 5 TRIM (in) "Optional External Fine Trim. See the Applying the AD586 section.", 6 VOUT (power) "Output Voltage.", 8 NR "Optional Noise Reduction Filter with External 1uF Capacitor to Ground."
part B pins: 1 TP "Factory Trim Pad (No Connect).", 3 TP "Factory Trim Pad (No Connect).", 7 TP "Factory Trim Pad (No Connect)."

## AD586KQ
designator U?
High Precision Reference, 5 V Output, 10.8 to 36 V Supply, Commercial, 8-pin DIP (Q-8), Tube; Manufacturer: Analog Devices; PartNumber: AD586KQ; Ref Out TC (ppm/C): 15; Vout: 5V; DatasheetVersion: Rev. G; PackageVersion: Aug-05; PackageReference: Q-8; PackageDescription: 8-Pin Ceramic Dual In-Line Package, Row spacing 7.62 mm, Pitch 2.54 mm; Supplier 1: Digi-Key; Supplier Part Number 1: AD586KQ-ND; Supplier 2: Mouser; Supplier Part Number 2: 584-AD586KQ; Packing: Tube; Operating Temp Range: 0 to 70 degC; Mounting Technology: Through Hole; ComponentLink1Description: Manufacturer URL; ComponentLink1URL: http://www.analog.com/en/index.html; ComponentLink2Description: Datasheet; ComponentLink2URL: http://www.analog.com/static/imported-files/data_sheets/AD586.pdf; ComponentLink3Description: Package Specification; ComponentLink3URL: http://www.analog.com/static/imported-files/packages/3925655241313314758Q_8.pdf; ComponentLink4Description: URL Link1; ComponentLink4URL: Product URL:http://www.analog.com/en/special-linear-functions/voltage-references/ad586/products/product.html
footprint ADI-Q-8 (DIP, 8-Leads, Body 10.29x6.73mm, Pitch 2.54mm)
part A pins: 2 VIN (power) "Input Voltage.", 4 GND (power) "Ground.", 5 TRIM (in) "Optional External Fine Trim. See the Applying the AD586 section.", 6 VOUT (power) "Output Voltage.", 8 NR "Optional Noise Reduction Filter with External 1uF Capacitor to Ground."
part B pins: 1 TP "Factory Trim Pad (No Connect).", 3 TP "Factory Trim Pad (No Connect).", 7 TP "Factory Trim Pad (No Connect)."

## AD586KR
designator U?
High Precision Reference, 5 V Output, 10.8 to 36 V Supply, Commercial, 8-pin SOIC (R-8), Tube; Manufacturer: Analog Devices; PartNumber: AD586KR; Ref Out TC (ppm/C): 15; Vout: 5V; DatasheetVersion: Rev. G; PackageVersion: 060506-A, 06/2006; PackageReference: R-8; PackageDescription: 8-Pin Standard Small Outline Package, Body 4.9 x 3.9 mm, Pitch 1.27 mm; Supplier 1: Digi-Key; Supplier Part Number 1: AD586KR-ND; Supplier 2: Mouser; Supplier Part Number 2: 584-AD586KR; Packing: Tube; Operating Temp Range: 0 to 70 degC; Mounting Technology: Surface Mount; Code_JEDEC: MS-012-AA; ComponentLink1Description: Manufacturer URL; ComponentLink1URL: http://www.analog.com/en/index.html; ComponentLink2Description: Datasheet; ComponentLink2URL: http://www.analog.com/static/imported-files/data_sheets/AD586.pdf; ComponentLink3Description: Package Specification; ComponentLink3URL: http://www.analog.com/static/imported-files/packages/PKG_PDF/SOIC_Narrow%20(R)/R_8.pdf; ComponentLink4Description: URL Link1; ComponentLink4URL: Product URL:http://www.analog.com/en/special-linear-functions/voltage-references/ad586/products/product.html
footprint ADI-R-8_N (SOIC, 8-Leads, Body 4.9x3.9mm, Pitch 1.27mm, IPC Medium Density)
footprint ADI-R-8_L (SOIC, 8-Leads, Body 4.9x3.9mm, Pitch 1.27mm, IPC High Density)
footprint ADI-R-8_M (SOIC, 8-Leads, Body 4.9x3.9mm, Pitch 1.27mm, IPC Low Density)
part A pins: 2 VIN (power) "Input Voltage.", 4 GND (power) "Ground.", 5 TRIM (in) "Optional External Fine Trim. See the Applying the AD586 section.", 6 VOUT (power) "Output Voltage.", 8 NR "Optional Noise Reduction Filter with External 1uF Capacitor to Ground."
part B pins: 1 TP "Factory Trim Pad (No Connect).", 3 TP "Factory Trim Pad (No Connect).", 7 TP "Factory Trim Pad (No Connect)."

## AD586KR-REEL7
designator U?
High Precision Reference, 5 V Output, 10.8 to 36 V Supply, Commercial, 8-pin SOIC (R-8), Reel; Manufacturer: Analog Devices; PartNumber: AD586KR-REEL7; Ref Out TC (ppm/C): 15; Vout: 5V; DatasheetVersion: Rev. G; PackageVersion: 060506-A, 06/2006; PackageReference: R-8; PackageDescription: 8-Pin Standard Small Outline Package, Body 4.9 x 3.9 mm, Pitch 1.27 mm; Supplier 1: Digi-Key; Supplier Part Number 1: AD586KR-REEL7TR-ND; Supplier 2: Digi-Key; Supplier Part Number 2: AD586KR-REEL7CT-ND; Supplier 3: Digi-Key; Supplier Part Number 3: AD586KR-REEL7DKR-ND; Supplier 4: Mouser; Supplier Part Number 4: 584-AD586KR-R7; Packing: Reel; Operating Temp Range: 0 to 70 degC; Mounting Technology: Surface Mount; Code_JEDEC: MS-012-AA; ComponentLink1Description: Manufacturer URL; ComponentLink1URL: http://www.analog.com/en/index.html; ComponentLink2Description: Datasheet; ComponentLink2URL: http://www.analog.com/static/imported-files/data_sheets/AD586.pdf; ComponentLink3Description: Package Specification; ComponentLink3URL: http://www.analog.com/static/imported-files/packages/PKG_PDF/SOIC_Narrow%20(R)/R_8.pdf; ComponentLink4Description: URL Link1; ComponentLink4URL: Product URL:http://www.analog.com/en/special-linear-functions/voltage-references/ad586/products/product.html
footprint ADI-R-8_N (SOIC, 8-Leads, Body 4.9x3.9mm, Pitch 1.27mm, IPC Medium Density)
footprint ADI-R-8_L (SOIC, 8-Leads, Body 4.9x3.9mm, Pitch 1.27mm, IPC High Density)
footprint ADI-R-8_M (SOIC, 8-Leads, Body 4.9x3.9mm, Pitch 1.27mm, IPC Low Density)
part A pins: 2 VIN (power) "Input Voltage.", 4 GND (power) "Ground.", 5 TRIM (in) "Optional External Fine Trim. See the Applying the AD586 section.", 6 VOUT (power) "Output Voltage.", 8 NR "Optional Noise Reduction Filter with External 1uF Capacitor to Ground."
part B pins: 1 TP "Factory Trim Pad (No Connect).", 3 TP "Factory Trim Pad (No Connect).", 7 TP "Factory Trim Pad (No Connect)."

## AD586KRZ
designator U?
High Precision Reference, 5 V Output, 10.8 to 36 V Supply, Commercial, 8-pin SOIC (R-8), Tube; Manufacturer: Analog Devices; PartNumber: AD586KRZ; Ref Out TC (ppm/C): 15; Vout: 5V; DatasheetVersion: Rev. G; PackageVersion: 060506-A, 06/2006; PackageReference: R-8; PackageDescription: 8-Pin Standard Small Outline Package, Body 4.9 x 3.9 mm, Pitch 1.27 mm; Supplier 1: Digi-Key; Supplier Part Number 1: AD586KRZ-ND; Supplier 2: Mouser; Supplier Part Number 2: 584-AD586KRZ; Packing: Tube; Operating Temp Range: 0 to 70 degC; Mounting Technology: Surface Mount; Code_JEDEC: MS-012-AA; ComponentLink1Description: Manufacturer URL; ComponentLink1URL: http://www.analog.com/en/index.html; ComponentLink2Description: Datasheet; ComponentLink2URL: http://www.analog.com/static/imported-files/data_sheets/AD586.pdf; ComponentLink3Description: Package Specification; ComponentLink3URL: http://www.analog.com/static/imported-files/packages/PKG_PDF/SOIC_Narrow%20(R)/R_8.pdf; ComponentLink4Description: URL Link1; ComponentLink4URL: Product URL:http://www.analog.com/en/special-linear-functions/voltage-references/ad586/products/product.html
footprint ADI-R-8_N (SOIC, 8-Leads, Body 4.9x3.9mm, Pitch 1.27mm, IPC Medium Density)
footprint ADI-R-8_L (SOIC, 8-Leads, Body 4.9x3.9mm, Pitch 1.27mm, IPC High Density)
footprint ADI-R-8_M (SOIC, 8-Leads, Body 4.9x3.9mm, Pitch 1.27mm, IPC Low Density)
part A pins: 2 VIN (power) "Input Voltage.", 4 GND (power) "Ground.", 5 TRIM (in) "Optional External Fine Trim. See the Applying the AD586 section.", 6 VOUT (power) "Output Voltage.", 8 NR "Optional Noise Reduction Filter with External 1uF Capacitor to Ground."
part B pins: 1 TP "Factory Trim Pad (No Connect).", 3 TP "Factory Trim Pad (No Connect).", 7 TP "Factory Trim Pad (No Connect)."